# EAGLE library part CC2540 (library cc2540)
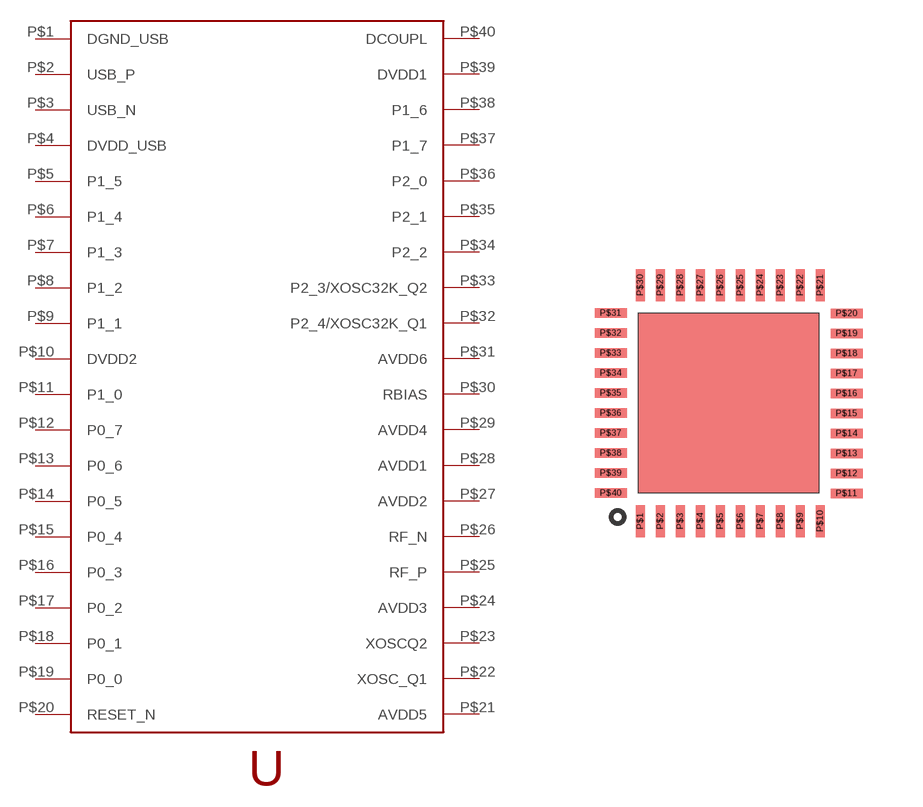
[diagram p0: symbol with the pads of CC2540; footprint CC2540]

Designator prefix -

## CC2540  [CC2540]
P$1  DGND_USB
P$2  USB_P
P$3  USB_N
P$4  DVDD_USB
P$5  P1_5
P$6  P1_4
P$7  P1_3
P$8  P1_2
P$9  P1_1
P$10  DVDD2
P$11  P1_0
P$12  P0_7
P$13  P0_6
P$14  P0_5
P$15  P0_4
P$16  P0_3
P$17  P0_2
P$18  P0_1
P$19  P0_0
P$20  RESET_N
P$21  AVDD5
P$22  XOSC_Q1
P$23  XOSCQ2
P$24  AVDD3
P$25  RF_P
P$26  RF_N
P$27  AVDD2
P$28  AVDD1
P$29  AVDD4
P$30  RBIAS
P$31  AVDD6
P$32  P2_4/XOSC32K_Q1
P$33  P2_3/XOSC32K_Q2
P$34  P2_2
P$35  P2_1
P$36  P2_0
P$37  P1_7
P$38  P1_6
P$39  DVDD1
P$40  DCOUPL

## Footprint CC2540 (pad centres in mm)
smd 0.23 x 0.8: P$1 0.11,-0.4; P$2 0.61,-0.4; P$3 1.11,-0.4; P$4 1.61,-0.4; P$5 2.11,-0.4; P$6 2.61,-0.4; P$7 3.11,-0.4; P$8 3.61,-0.4; P$9 4.11,-0.4; P$10 4.61,-0.4; P$21 4.61,5.5; P$22 4.11,5.5; P$23 3.61,5.5; P$24 3.11,5.5; P$25 2.61,5.5; P$26 2.11,5.5; P$27 1.61,5.5; P$28 1.11,5.5; P$29 0.61,5.5; P$30 0.11,5.5
smd 0.8 x 0.23: P$11 5.27,0.29; P$12 5.27,0.79; P$13 5.27,1.29; P$14 5.27,1.79; P$15 5.27,2.29; P$16 5.27,2.79; P$17 5.27,3.29; P$18 5.27,3.79; P$19 5.27,4.29; P$20 5.27,4.79; P$31 -0.63,4.8; P$32 -0.63,4.3; P$33 -0.63,3.8; P$34 -0.63,3.3; P$35 -0.63,2.8; P$36 -0.63,2.3; P$37 -0.63,1.8; P$38 -0.63,1.3; P$39 -0.63,0.8; P$40 -0.63,0.3